# EAGLE library part AP22653W6 (library ds_ic_peripherals)
PRECISION ADJUSTABLE CURRENT-LIMITED POWER SWITCHES
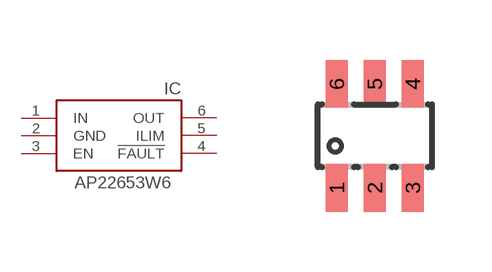
[diagram p22: symbol with the pads of SOT23-6; footprint SOT23-6]

Designator prefix IC

## AP22653W6 (DATASHEET: https://www.diodes.com/assets/Datasheets/AP22652_53_52A_53A.pdf; DESCRIPTION: PRECISION ADJUSTABLE CURRENT-LIMITED POWER SWITCHES; HQ_PART: PM0174903; LCSC_PART: C2158037; MANUFACTURER: Diodes Incorporated; MPN: AP22653W6-7; ROHS: YES; VALUE: AP22653W6)  [SOT23-6]
1  IN
2  GND
3  EN
4  !FAULT
5  ILIM
6  OUT

## Footprint SOT23-6 (pad centres in mm)
smd 0.55 x 1.2: 1 -0.95,-1.3; 2 0,-1.3; 3 0.95,-1.3; 4 0.95,1.3; 5 0,1.3; 6 -0.95,1.3